# EAGLE library part SSCDRR (library exoteric-analytics-custom)
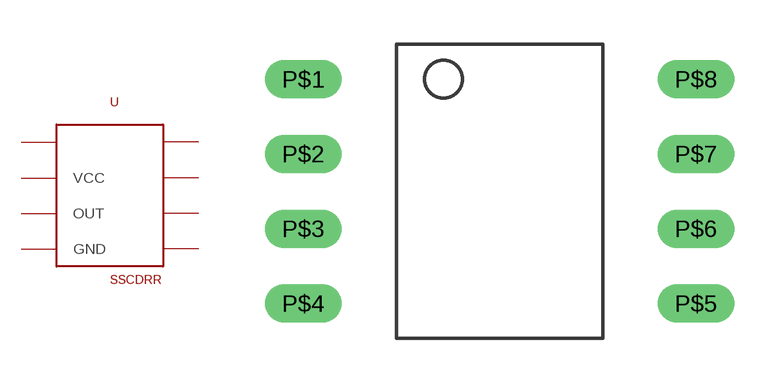
[diagram p8: symbol with the pads of SSCDRR; footprint SSCDRR]

Designator prefix -

## SSCDRR  [SSCDRR]
P$1  P$1  nc
P$2  VCC  pwr
P$3  OUT  out
P$4  GND  pwr
P$5  P$5  nc
P$6  P$6  nc
P$7  P$7  nc
P$8  P$8  nc

## Footprint SSCDRR (pad centres in mm)
drill 0.8 long: P$1 -6.668,3.81; P$2 -6.668,1.27; P$3 -6.668,-1.27; P$4 -6.668,-3.81; P$5 6.668,-3.81; P$6 6.668,-1.27; P$7 6.668,1.27; P$8 6.668,3.81